# EAGLE library part MP2307 (library taki-library)
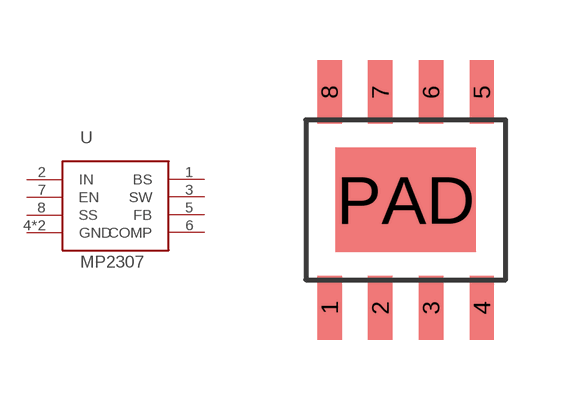
[diagram p28: symbol with the pads of MP2307; footprint MP2307]

Designator prefix U

## MP2307  [MP2307]
1  BS
2  IN
3  SW
4  GND
5  FB
6  COMP
7  EN
8  SS
PAD  GND

## Footprint MP2307 (pad centres in mm)
smd 0.61 x 1.6: 1 -1.905,-2.7; 2 -0.635,-2.7; 3 0.635,-2.7; 4 1.905,-2.7; 5 1.905,2.7; 6 0.635,2.7; 7 -0.635,2.7; 8 -1.905,2.7
smd 3.51 x 2.62: PAD 0,0